# Altium footprint library Con IEEE1394.PcbLib: 5 footprints
Each footprint in its own frame and in the unit in brackets; x right, y up, seen from the top. Pads: shape width x height; smd on the part's side, far side on the other; paste and mask are expansions set on the pad; w line width, h text height; cw(c..) or ccw(c..) is an arc to the next point about the centre after c.
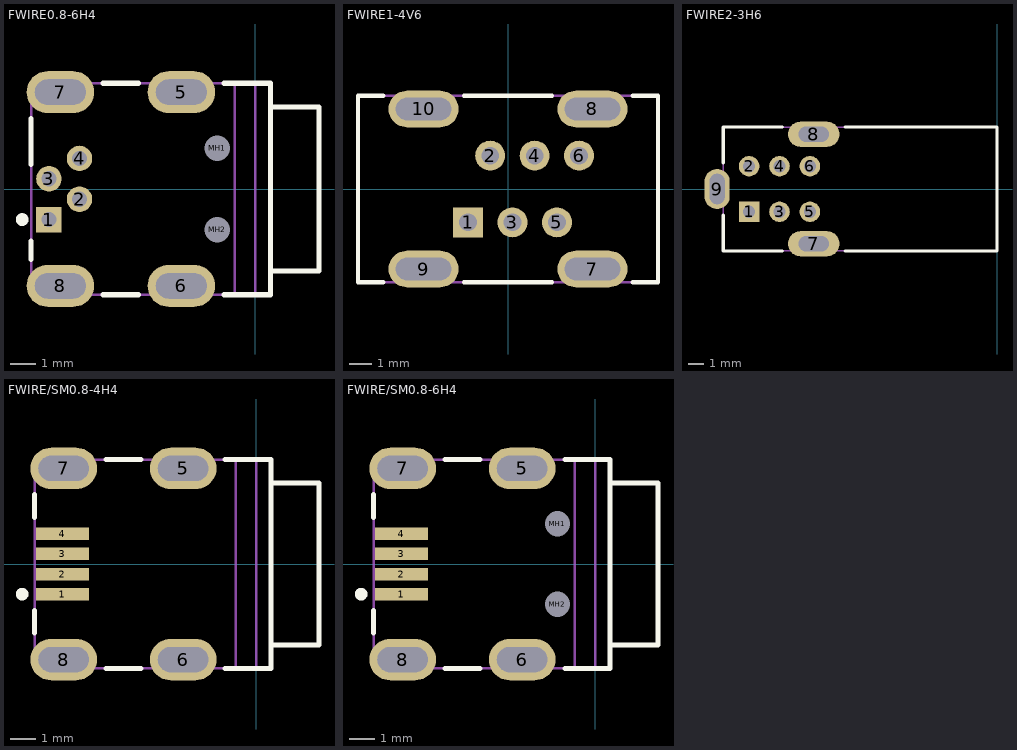
[diagram p0: the footprints below, top view; thin cyan lines are the x and y axes]

## FWIRE0.8-6H4 [mm] "Connector; IEEE1394, Thru-Hole; 4 Position; Right Angle"
height 9.7
pads (10):
  rect 1x1 hole 0.6: 1(-8.1,-1.2)
  round 1 hole 0.6: 2(-6.9,-0.4) 3(-8.1,0.4) 4(-6.9,1.2)
  oval 2.65x1.65 hole 1 slot 2 at 0 deg: 5(-2.9,3.8) 6(-2.9,-3.8) 7(-7.65,3.8) 8(-7.65,-3.8)
  round 0.7 hole 1 unplated: MH1(-1.5,1.6) MH2(-1.5,-1.6)
Top Overlay:
  circle w0.25: c-9.15,-1.199 r0.125
  lines w0.2: -8.8,-2.76 -8.8,-2.05 ; -8.8,0.97 -8.8,2.76 ; -5.97,-4.15 -4.58,-4.15 ; -5.97,4.15 -4.58,4.15 ; -1.23,-4.15 0.6,-4.15 0.6,4.15 -1.23,4.15 ; 0.6,-3.225 2.5,-3.225 2.5,3.225 0.6,3.225
Mechanical 1:
  lines w0.1: 0,-4.15 0,4.15
  text "PCB Edge" at 0.37,-3.705 h0.25
Mechanical 13:
  lines w0.1: -0.8,-4.15 -0.8,4.15 ; 0.6,-3.225 2.5,-3.225 2.5,3.225 0.6,3.225 ; -8.8,-4.15 -8.8,4.15 0.6,4.15 0.6,-4.15 -8.8,-4.15
3D body: height 5.15, standoff 0.6, extent 0.601,-3.224 2.499,3.224
3D body: height 5.9, standoff 0, extent -8.799,-4.149 0.599,4.149
3D body: height 9.7, standoff 5.9, extent -0.799,-4.149 0.599,4.149

## FWIRE1-4V6 [mm] "Connector; IEEE1394, Thru-Hole; 6 Position; Vertical"
height 16.5
pads (10):
  rect 1.35x1.35 hole 0.8: 1(-1.8,-1.5)
  round 1.35 hole 0.8: 2(-0.8,1.5) 3(0.2,-1.5) 4(1.2,1.5) 5(2.2,-1.5) 6(3.2,1.5)
  oval 3.15x1.65 hole 1 slot 2.5 at 0 deg: 7(3.8,-3.6) 8(3.8,3.6) 9(-3.8,-3.6) 10(-3.8,3.6)
Top Overlay:
  lines w0.2: -5.62,-4.2 -6.75,-4.2 -6.75,4.2 -5.62,4.2 ; -1.98,-4.2 1.98,-4.2 ; -1.98,4.2 1.98,4.2 ; 5.62,-4.2 6.75,-4.2 6.75,4.2 5.62,4.2
Mechanical 13:
  lines w0.1: -6.75,-4.2 6.75,-4.2 6.75,4.2 -6.75,4.2 -6.75,-4.2
3D body: height 16.5, standoff 0, extent -6.75,-4.2 6.75,4.2

## FWIRE2-3H6 [mm] "Connector; IEEE1394, Thru-Hole; 6 Position; Right Angle"
height 13.7
pads (9):
  rect 1.35x1.35 hole 0.8: 1(-16.3,-1.5)
  round 1.35 hole 0.8: 2(-16.3,1.5) 3(-14.3,-1.5) 4(-14.3,1.5) 5(-12.3,-1.5) 6(-12.3,1.5)
  oval 3.4x1.65 hole 1 slot 2 at 0 deg: 7(-12.05,-3.6) 8(-12.05,3.6)
  oval 1.65x2.65 hole 1 slot 2 at 90 deg: 9(-18.4,0)
Top Overlay:
  lines w0.2: -18,-1.725 -18,-4.075 -14.1,-4.075 ; -18,1.725 -18,4.075 -14.1,4.075 ; -10,-4.075 0,-4.075 0,4.075 -10,4.075
Mechanical 13:
  lines w0.1: -18,-4.075 0,-4.075 0,4.075 -18,4.075 -18,-4.075
3D body: height 13.7, standoff 0, extent -17.999,-4.074 -0.001,4.074

## FWIRE/SM0.8-4H4 [mm] "Connector; IEEE1394, SM; 4 Position; Right Angle"
height 11.1
pads (8):
  rect 2.1x0.5 smd: 1(-7.7,-1.2) 2(-7.7,-0.4) 3(-7.7,0.4) 4(-7.7,1.2)
  oval 2.65x1.65 hole 1 slot 2 at 0 deg: 5(-2.9,3.8) 6(-2.9,-3.8) 7(-7.65,3.8) 8(-7.65,-3.8)
Top Overlay:
  circle w0.25: c-9.3,-1.199 r0.125
  lines w0.2: -8.8,-2.75 -8.8,-1.85 ; -8.8,1.85 -8.8,2.76 ; -5.97,-4.15 -4.58,-4.15 ; -5.97,4.15 -4.58,4.15 ; -1.23,-4.15 0.6,-4.15 0.6,4.15 -1.23,4.15 ; 0.6,-3.225 2.5,-3.225 2.5,3.225 0.6,3.225
Mechanical 1:
  lines w0.1: 0,-4.15 0,4.15
  text "PCB Edge" at 0.35,-3.6 h0.25
Mechanical 13:
  lines w0.1: -0.8,-4.15 -0.8,4.15 ; 0.6,-3.225 2.5,-3.225 2.5,3.225 0.6,3.225 ; -8.8,-4.15 0.6,-4.15 0.6,4.15 -8.8,4.15 -8.8,-4.15
3D body: height 11.1, standoff 5.9, extent -0.799,-4.149 0.599,4.15
3D body: height 5.9, standoff 0, extent -8.799,-4.149 0.599,4.15
3D body: height 5.15, standoff 0.6, extent 0.601,-3.224 2.499,3.225

## FWIRE/SM0.8-6H4 [mm] "Connector; IEEE1394, SM; 4 Position; Right Angle"
height 9.7
pads (10):
  rect 2.1x0.5 smd: 1(-7.7,-1.2) 2(-7.7,-0.4) 3(-7.7,0.4) 4(-7.7,1.2)
  oval 2.65x1.65 hole 1 slot 2 at 0 deg: 5(-2.9,3.8) 6(-2.9,-3.8) 7(-7.65,3.8) 8(-7.65,-3.8)
  round 0.7 hole 1 unplated: MH1(-1.5,1.6) MH2(-1.5,-1.6)
Top Overlay:
  circle w0.25: c-9.3,-1.2 r0.125
  lines w0.2: -8.8,-2.75 -8.8,-1.85 ; -8.8,1.85 -8.8,2.76 ; -5.97,-4.15 -4.58,-4.15 ; -5.97,4.15 -4.58,4.15 ; -1.2,-4.15 0.6,-4.15 0.6,4.15 -1.2,4.15 ; 0.6,-3.225 2.5,-3.225 2.5,3.225 0.6,3.225
Mechanical 1:
  lines w0.1: 0,-4.15 0,4.15
  text "PCB Edge" at 0.35,-3.6 h0.25
Mechanical 13:
  lines w0.1: -0.8,-4.15 -0.8,4.15 ; 0.6,-3.225 2.5,-3.225 2.5,3.225 0.6,3.225 ; -8.8,-4.15 -8.8,4.15 0.6,4.15 0.6,-4.15 -8.8,-4.15
3D body: height 5.9, standoff 0, extent -8.799,-4.149 0.599,4.149
3D body: height 5.15, standoff 0.6, extent 0.601,-3.224 2.499,3.224
3D body: height 9.7, standoff 5.9, extent -0.799,-4.149 0.599,4.149